# EAGLE library part THS7374IPWR (library tms-rgb)
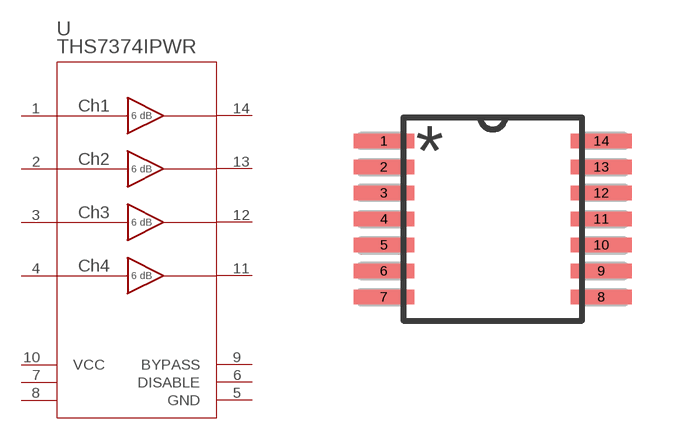
[diagram p3: symbol with the pads of THS7374; footprint THS7374]

Designator prefix U

## THS7374IPWR (BUILT_BY: EMA_UL_Team; MANUFACTURER: Texas Instruments; MANUFACTURER_PART_NUMBER: THS7374IPWR; VENDOR: Texas Instruments)  [THS7374]
1  CH1IN  in
2  CH2IN  in
3  CH3IN  in
4  CH4IN  in
5  GND  pwr
6  DISABLE  pas
7  NC_2  nc
8  NC  nc
9  BYPASS  pas
10  VCC  pwr
11  CH4OUT  out
12  CH3OUT  out
13  CH2OUT  out
14  CH1OUT  out

## Footprint THS7374 (pad centres in mm)
smd 1.524 x 0.356: 1 -2.718,1.95; 2 -2.718,1.3; 3 -2.718,0.65; 4 -2.718,0; 5 -2.718,-0.65; 6 -2.718,-1.3; 7 -2.718,-1.95; 8 2.718,-1.95; 9 2.718,-1.3; 10 2.718,-0.65; 11 2.718,0; 12 2.718,0.65; 13 2.718,1.3; 14 2.718,1.95